# EAGLE library part MOLEX_MINIFIT-10 (library molex_mini-fit)
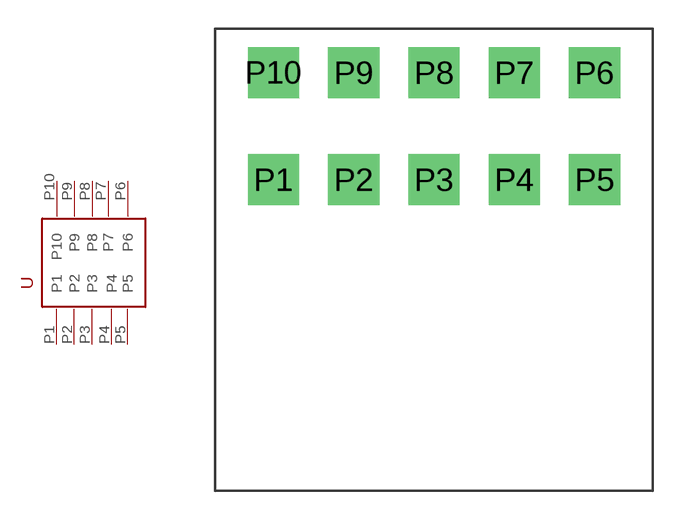
[diagram p1: symbol with the pads of MOLEX_MINIFIT-10; footprint MOLEX_MINIFIT-10]

Designator prefix -

## MOLEX_MINIFIT-10  [MOLEX_MINIFIT-10]
P1  P1
P2  P2
P3  P3
P4  P4
P5  P5
P6  P6
P7  P7
P8  P8
P9  P9
P10  P10

## Footprint MOLEX_MINIFIT-10 (pad centres in mm)
drill 1.778 pad 2.54 square: P1 -8.382,-2.794; P2 -4.191,-2.794; P3 0,-2.794; P4 4.191,-2.794; P5 8.382,-2.794; P6 8.382,2.794; P7 4.191,2.794; P8 0,2.794; P9 -4.191,2.794; P10 -8.382,2.794